# Altium schematic symbol library THYRISTOR.SchLib: 2 symbols
Pins are listed as number, name and electrical type; pins without a type are passive.

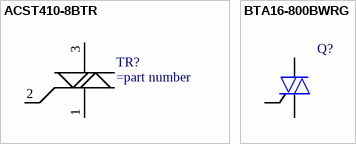
[diagram p0: symbols ACST410-8BTR to BTA16-800BWRG]

## ACST410-8BTR
designator TR?
pins: 1 COM, 2 G, 3 OUT

## BTA16-800BWRG
designator Q?
pins: 1 M1, 2 M2, 3 G